# Altium schematic symbol library Antenna.SchLib: 1 symbol
Pins are listed as number, name and electrical type; pins without a type are passive.

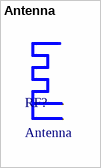
[diagram p0: symbol Antenna]

## Antenna
designator RF?
footprint 2.4GHZ-50OHMS_v1.1
pins: 1, 2